# Altium footprint library RES_CHIP_1210_PAN.PcbLib: 1 footprints
Each footprint in its own frame and in the unit in brackets; x right, y up, seen from the top. Pads: shape width x height; smd on the part's side, far side on the other; paste and mask are expansions set on the pad; w line width, h text height; cw(c..) or ccw(c..) is an arc to the next point about the centre after c.
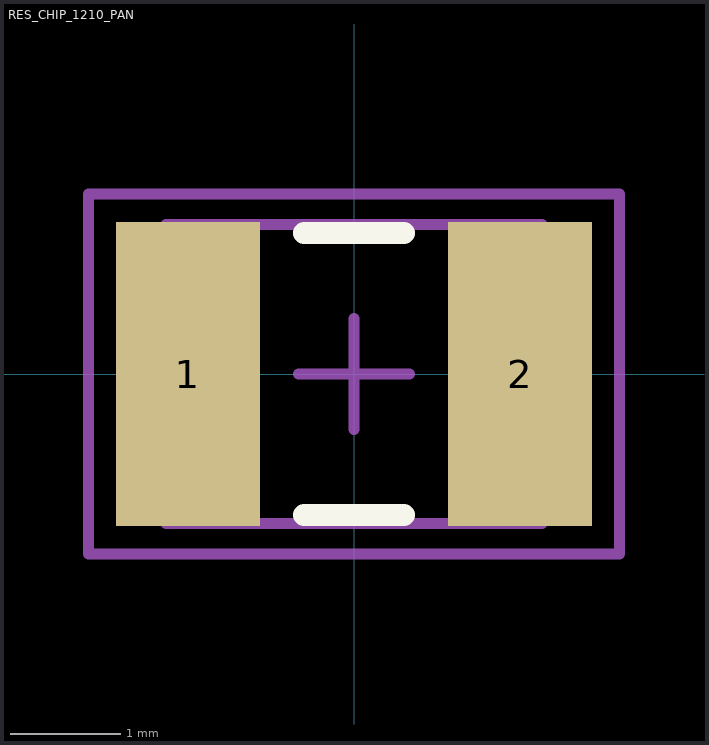
[diagram p0: the footprint, top view; thin cyan lines are the x and y axes]

## RES_CHIP_1210_PAN [mm]
height 0.7
pads (2):
  rect 1.3x2.75 smd: 1(-1.5,0) 2(1.5,0)
Top Overlay:
  lines w0.2: -0.45,-1.275 0.45,-1.275 ; -0.45,1.275 0.45,1.275
Mechanical 13:
  lines w0.1: -1.7,-1.35 -1.7,1.35 1.7,1.35 1.7,-1.35 -1.7,-1.35
Mechanical 15:
  lines w0.1: -0.5,0 0.5,0 ; 0,-0.5 0,0.5 ; -2.4,-1.625 -2.4,1.625 2.4,1.625 2.4,-1.625 -2.4,-1.625
3D body: height 0.6, standoff 0, extent -1.6,-1.243 1.6,1.257